# EAGLE library part MMDT3946-NPN-PNP (library dragino)
Dual NPN PNP TRANSISTOR
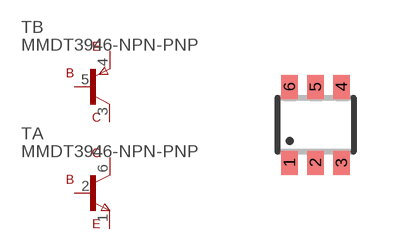
[diagram p21: symbol with the pads of SOT363; footprint SOT363]

Designator prefix T; gates A=NPN B=PNP

## MMDT3946-NPN-PNP (OC_FARNELL: unknown; OC_NEWARK: unknown)  [SOT363]
1  A:E  pas
2  A:B  pas
3  B:C  pas
4  B:E  pas
5  B:B  pas
6  A:C  pas

## Footprint SOT363 (pad centres in mm)
Small Outline Transistor 6 lead
smd 0.42 x 0.6: 1 -0.65,-0.95; 2 0,-0.95; 3 0.65,-0.95; 4 0.65,0.95; 5 0,0.95; 6 -0.65,0.95